# Altium schematic symbol library Analog_DAC.SchLib: 136 symbols (part 2 of 2)
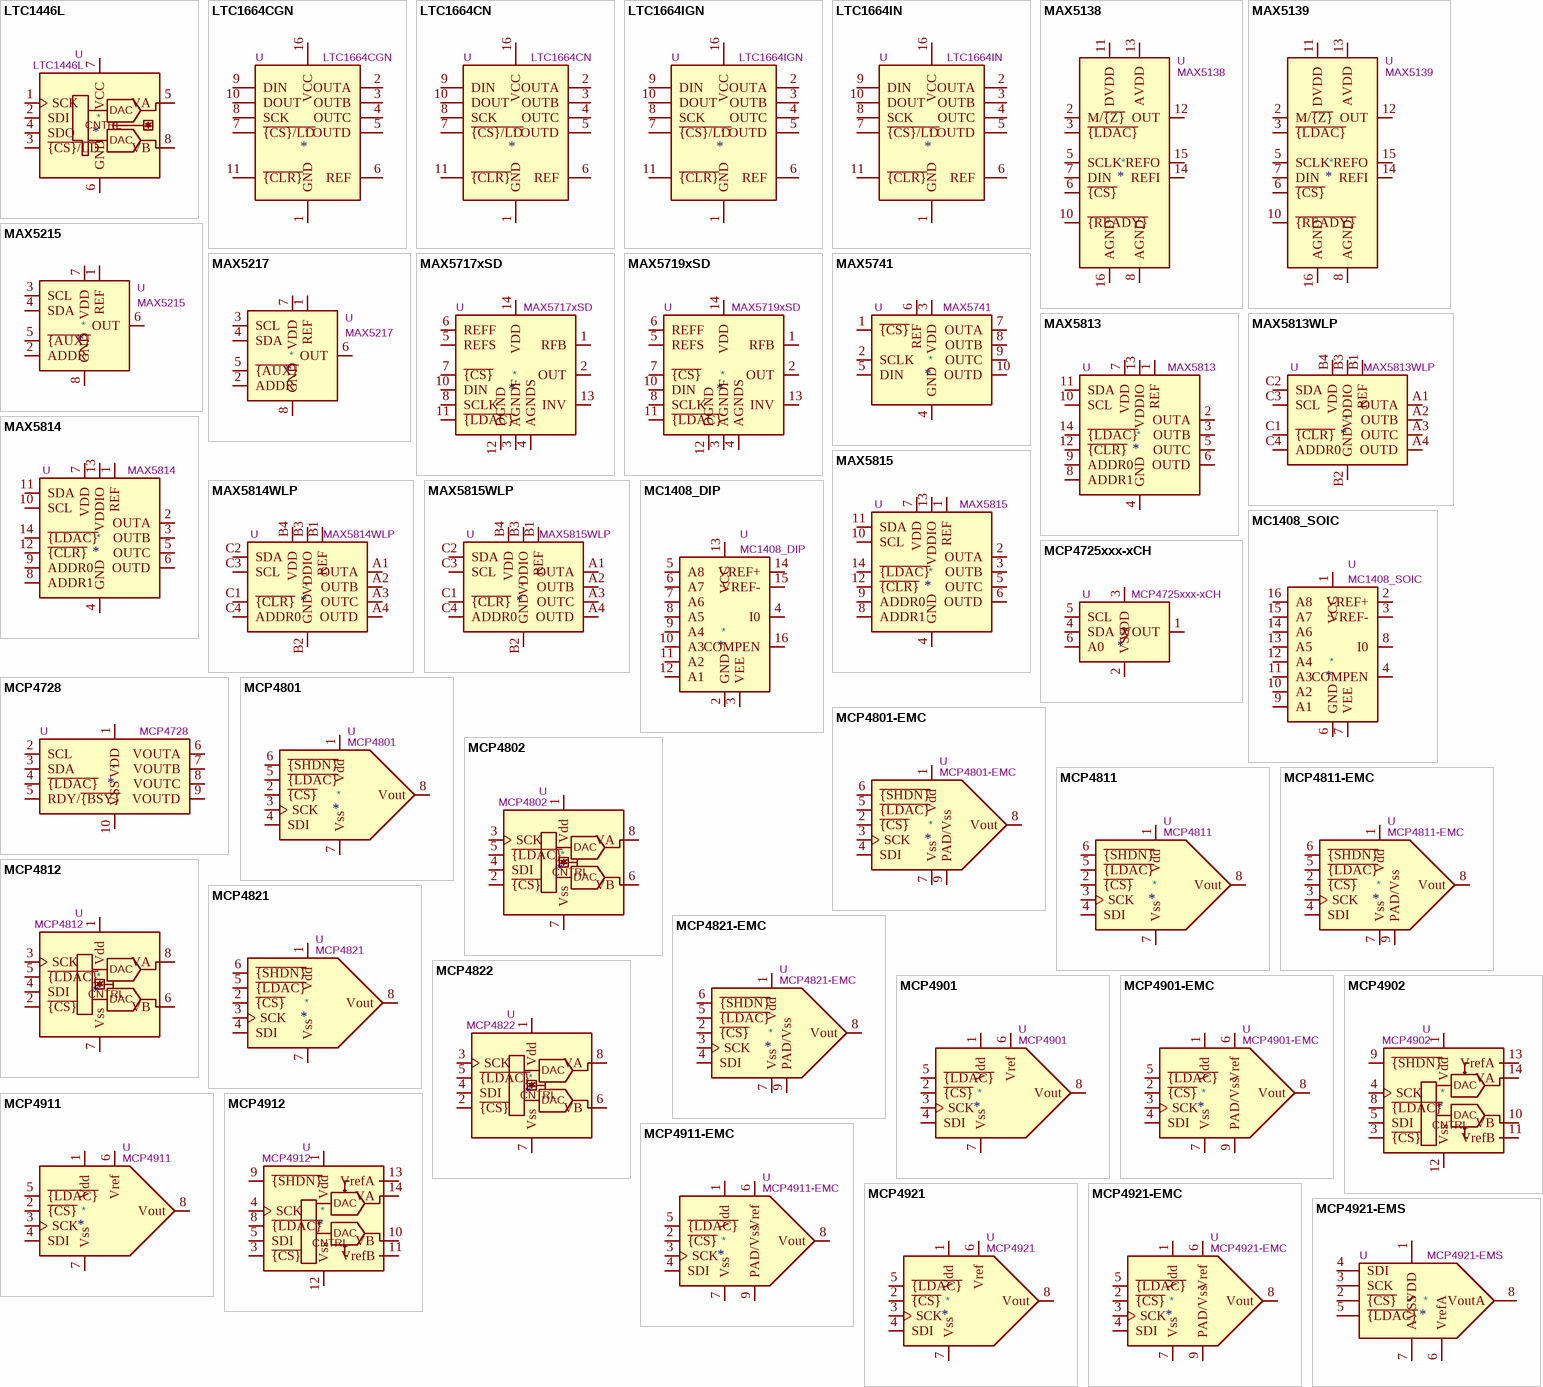
[diagram p5: symbols LTC1446L to MCP4921-EMS]

## MC1408_SOIC
designator *  value MC1408_SOIC  Reference: U
ki_keywords: 8 bit multiplying DAC; ki_description: 8-bit multiplying DAC; ki_fp_filters: SOIC*3.9x9.9mm*P1.27mm*; Footprint: Package_SO:SOIC-16_3.9x9.9mm_P1.27mm; Datasheet: http://www.pinballpcb.com/datasheets/OnMC1408-dac.pdf
pins: 1 VCC, 2 VREF+, 3 VREF-, 4 COMPEN, 5 NC hidden, 6 GND, 7 VEE, 8 I0, 9 A1, 10 A2, 11 A3, 12 A4, 13 A5, 14 A6, 15 A7, 16 A8

## MCP4725xxx-xCH
designator *  value MCP4725xxx-xCH  Reference: U
ki_keywords: dac twi; ki_description: 12-bit Digital-to-Analog Converter, integrated EEPROM, I2C interface, SOT-23-6; ki_fp_filters: SOT?23*; Footprint: Package_TO_SOT_SMD:SOT-23-6; Datasheet: http://ww1.microchip.com/downloads/en/DeviceDoc/22039d.pdf
pins: 1 VOUT, 2 VSS, 3 VDD, 4 SDA, 5 SCL, 6 A0

## MCP4728
designator *  value MCP4728  Reference: U
ki_keywords: dac i2c; ki_description: 12-bit digital to analog converter, quad output, 2.048V internal reference, integrated EEPROM, I2C interface; ki_fp_filters: *SOP*3x3mm*P0.5mm*; Footprint: Package_SO:MSOP-10_3x3mm_P0.5mm; Datasheet: http://ww1.microchip.com/downloads/en/DeviceDoc/22187E.pdf
pins: 1 VDD, 2 SCL, 3 SDA, 4 ~{{LDAC}}, 5 RDY/~{{BSY}}, 6 VOUTA, 7 VOUTB, 8 VOUTC, 9 VOUTD, 10 VSS

## MCP4801
designator *  value MCP4801  Reference: U
ki_keywords: 8-Bit DAC SPI Reference 1ch; ki_description: 8-Bit D/A Converters with SPI Interface, internal Reference (2.048V); ki_fp_filters: DIP*W7.62mm* MSOP*3x3mm*P0.65mm* SOIC*3.9x4.9mm*P1.27mm*; Datasheet: http://ww1.microchip.com/downloads/en/DeviceDoc/22244B.pdf
pins: 1 Vdd, 2 ~{{CS}}, 3 SCK, 4 SDI, 5 ~{{LDAC}}, 6 ~{{SHDN}}, 7 Vss, 8 Vout

## MCP4801-EMC
designator *  value MCP4801-EMC  Reference: U
ki_keywords: 8-Bit DAC SPI Reference 1ch; ki_description: 8-Bit D/A Converters with SPI Interface, internal Reference (2.048V); ki_fp_filters: DFN*1EP*3x2mm*P0.5mm*; Footprint: Package_DFN_QFN:DFN-8-1EP_3x2mm_P0.5mm_EP1.75x1.45mm; Datasheet: http://ww1.microchip.com/downloads/en/DeviceDoc/22244B.pdf
pins: 1 Vdd, 2 ~{{CS}}, 3 SCK, 4 SDI, 5 ~{{LDAC}}, 6 ~{{SHDN}}, 7 Vss, 8 Vout, 9 PAD/Vss

## MCP4802
designator *  value MCP4802  Reference: U
ki_keywords: 8-Bit DAC SPI Reference 2ch; ki_description: 2-Channel 8-Bit D/A Converters with SPI Interface and Internal Reference (2.048V); ki_fp_filters: DIP*W7.62mm* SOIC*3.9x4.9mm*P1.27mm* MSOP*3x3mm*P0.65mm*; Datasheet: http://ww1.microchip.com/downloads/en/DeviceDoc/20002249B.pdf
pins: 1 Vdd, 2 ~{{CS}}, 3 SCK, 4 SDI, 5 ~{{LDAC}}, 6 VB, 7 Vss, 8 VA
text: DAC; CNTRL

## MCP4811
designator *  value MCP4811  Reference: U
ki_keywords: 10-Bit DAC SPI Reference 1ch; ki_description: 10-Bit D/A Converters with SPI Interface, internal Reference (2.048V); ki_fp_filters: DIP*W7.62mm* MSOP*3x3mm*P0.65mm* SOIC*3.9x4.9mm*P1.27mm*; Datasheet: http://ww1.microchip.com/downloads/en/DeviceDoc/22244B.pdf
pins: 1 Vdd, 2 ~{{CS}}, 3 SCK, 4 SDI, 5 ~{{LDAC}}, 6 ~{{SHDN}}, 7 Vss, 8 Vout

## MCP4811-EMC
designator *  value MCP4811-EMC  Reference: U
ki_keywords: 10-Bit DAC SPI Reference 1ch; ki_description: 10-Bit D/A Converters with SPI Interface, internal Reference (2.048V); ki_fp_filters: DFN*1EP*3x2mm*P0.5mm*; Footprint: Package_DFN_QFN:DFN-8-1EP_3x2mm_P0.5mm_EP1.75x1.45mm; Datasheet: http://ww1.microchip.com/downloads/en/DeviceDoc/22244B.pdf
pins: 1 Vdd, 2 ~{{CS}}, 3 SCK, 4 SDI, 5 ~{{LDAC}}, 6 ~{{SHDN}}, 7 Vss, 8 Vout, 9 PAD/Vss

## MCP4812
designator *  value MCP4812  Reference: U
ki_keywords: 10-Bit DAC SPI Reference 2ch; ki_description: 2-Channel 10-Bit D/A Converters with SPI Interface and Internal Reference (2.048V); ki_fp_filters: DIP*W7.62mm* SOIC*3.9x4.9mm*P1.27mm* MSOP*3x3mm*P0.65mm*; Datasheet: http://ww1.microchip.com/downloads/en/DeviceDoc/20002249B.pdf
pins: 1 Vdd, 2 ~{{CS}}, 3 SCK, 4 SDI, 5 ~{{LDAC}}, 6 VB, 7 Vss, 8 VA
text: DAC; CNTRL

## MCP4821
designator *  value MCP4821  Reference: U
ki_keywords: 12-Bit DAC SPI Reference 1ch; ki_description: 12-Bit D/A Converters with SPI Interface, internal Reference (2.048V); ki_fp_filters: DIP*W7.62mm* MSOP*3x3mm*P0.65mm* SOIC*3.9x4.9mm*P1.27mm*; Datasheet: http://ww1.microchip.com/downloads/en/DeviceDoc/22244B.pdf
pins: 1 Vdd, 2 ~{{CS}}, 3 SCK, 4 SDI, 5 ~{{LDAC}}, 6 ~{{SHDN}}, 7 Vss, 8 Vout

## MCP4821-EMC
designator *  value MCP4821-EMC  Reference: U
ki_keywords: 12-Bit DAC SPI Reference 1ch; ki_description: 12-Bit D/A Converters with SPI Interface, internal Reference (2.048V); ki_fp_filters: DFN*1EP*3x2mm*P0.5mm*; Footprint: Package_DFN_QFN:DFN-8-1EP_3x2mm_P0.5mm_EP1.75x1.45mm; Datasheet: http://ww1.microchip.com/downloads/en/DeviceDoc/22244B.pdf
pins: 1 Vdd, 2 ~{{CS}}, 3 SCK, 4 SDI, 5 ~{{LDAC}}, 6 ~{{SHDN}}, 7 Vss, 8 Vout, 9 PAD/Vss

## MCP4822
designator *  value MCP4822  Reference: U
ki_keywords: 12-Bit DAC SPI Reference 2ch; ki_description: 2-Channel 12-Bit D/A Converters with SPI Interface and Internal Reference (2.048V); ki_fp_filters: DIP*W7.62mm* SOIC*3.9x4.9mm*P1.27mm* MSOP*3x3mm*P0.65mm*; Datasheet: http://ww1.microchip.com/downloads/en/DeviceDoc/20002249B.pdf
pins: 1 Vdd, 2 ~{{CS}}, 3 SCK, 4 SDI, 5 ~{{LDAC}}, 6 VB, 7 Vss, 8 VA
text: DAC; CNTRL

## MCP4901
designator *  value MCP4901  Reference: U
ki_keywords: 8-Bit DAC SPI  1ch; ki_description: 8-Bit D/A Converters with SPI Interface; ki_fp_filters: DIP*W7.62mm* MSOP*3x3mm*P0.65mm* SOIC*3.9x4.9mm*P1.27mm*; Datasheet: http://ww1.microchip.com/downloads/en/DeviceDoc/22248a.pdf
pins: 1 Vdd, 2 ~{{CS}}, 3 SCK, 4 SDI, 5 ~{{LDAC}}, 6 Vref, 7 Vss, 8 Vout

## MCP4901-EMC
designator *  value MCP4901-EMC  Reference: U
ki_keywords: 8-Bit DAC SPI  1ch; ki_description: 8-Bit D/A Converters with SPI Interface; ki_fp_filters: DFN*1EP*3x2mm*P0.5mm*; Footprint: Package_DFN_QFN:DFN-8-1EP_3x2mm_P0.5mm_EP1.75x1.45mm; Datasheet: http://ww1.microchip.com/downloads/en/DeviceDoc/22248a.pdf
pins: 1 Vdd, 2 ~{{CS}}, 3 SCK, 4 SDI, 5 ~{{LDAC}}, 6 Vref, 7 Vss, 8 Vout, 9 PAD/Vss

## MCP4902
designator *  value MCP4902  Reference: U
ki_keywords: 8-Bit DAC SPI  2ch; ki_description: 2-Channel 8-Bit D/A Converters with SPI Interface; ki_fp_filters: DIP*W7.62mm* SOIC*3.9x8.7mm*P1.27mm* TSSOP*4.4x5mm*P0.65mm*; Datasheet: http://ww1.microchip.com/downloads/en/DeviceDoc/22250A.pdf
pins: 1 Vdd, 2 NC hidden, 3 ~{{CS}}, 4 SCK, 5 SDI, 6 NC hidden, 7 NC hidden, 8 ~{{LDAC}}, 9 ~{{SHDN}}, 10 VB, 11 VrefB, 12 Vss, 13 VrefA, 14 VA
text: DAC; CNTRL

## MCP4911
designator *  value MCP4911  Reference: U
ki_keywords: 10-Bit DAC SPI 1ch; ki_description: 10-Bit D/A Converters with SPI Interface; ki_fp_filters: DIP*W7.62mm* MSOP*3x3mm*P0.65mm* SOIC*3.9x4.9mm*P1.27mm*; Datasheet: http://ww1.microchip.com/downloads/en/DeviceDoc/22248a.pdf
pins: 1 Vdd, 2 ~{{CS}}, 3 SCK, 4 SDI, 5 ~{{LDAC}}, 6 Vref, 7 Vss, 8 Vout

## MCP4911-EMC
designator *  value MCP4911-EMC  Reference: U
ki_keywords: 10-Bit DAC SPI  1ch; ki_description: 10-Bit D/A Converters with SPI Interface; ki_fp_filters: DFN*1EP*3x2mm*P0.5mm*; Footprint: Package_DFN_QFN:DFN-8-1EP_3x2mm_P0.5mm_EP1.75x1.45mm; Datasheet: http://ww1.microchip.com/downloads/en/DeviceDoc/22248a.pdf
pins: 1 Vdd, 2 ~{{CS}}, 3 SCK, 4 SDI, 5 ~{{LDAC}}, 6 Vref, 7 Vss, 8 Vout, 9 PAD/Vss

## MCP4912
designator *  value MCP4912  Reference: U
ki_keywords: 10-Bit DAC SPI 2ch; ki_description: 2-Channel 10-Bit D/A Converters with SPI Interface; ki_fp_filters: DIP*W7.62mm* SOIC*3.9x8.7mm*P1.27mm* TSSOP*4.4x5mm*P0.65mm*; Datasheet: http://ww1.microchip.com/downloads/en/DeviceDoc/22250A.pdf
pins: 1 Vdd, 2 NC hidden, 3 ~{{CS}}, 4 SCK, 5 SDI, 6 NC hidden, 7 NC hidden, 8 ~{{LDAC}}, 9 ~{{SHDN}}, 10 VB, 11 VrefB, 12 Vss, 13 VrefA, 14 VA
text: DAC; CNTRL

## MCP4921
designator *  value MCP4921  Reference: U
ki_keywords: 12-Bit DAC SPI 1ch; ki_description: 12-Bit D/A Converters with SPI Interface; ki_fp_filters: DIP*W7.62mm* MSOP*3x3mm*P0.65mm* SOIC*3.9x4.9mm*P1.27mm*; Datasheet: http://ww1.microchip.com/downloads/en/DeviceDoc/22248a.pdf
pins: 1 Vdd, 2 ~{{CS}}, 3 SCK, 4 SDI, 5 ~{{LDAC}}, 6 Vref, 7 Vss, 8 Vout

## MCP4921-EMC
designator *  value MCP4921-EMC  Reference: U
ki_keywords: 12-Bit DAC SPI  1ch; ki_description: 12-Bit D/A Converters with SPI Interface; ki_fp_filters: DFN*1EP*3x2mm*P0.5mm*; Footprint: Package_DFN_QFN:DFN-8-1EP_3x2mm_P0.5mm_EP1.75x1.45mm; Datasheet: http://ww1.microchip.com/downloads/en/DeviceDoc/22248a.pdf
pins: 1 Vdd, 2 ~{{CS}}, 3 SCK, 4 SDI, 5 ~{{LDAC}}, 6 Vref, 7 Vss, 8 Vout, 9 PAD/Vss

## MCP4921-EMS
designator *  value MCP4921-EMS  Reference: U
ki_keywords: Single DAC 1ch 12bit SPI; ki_description: Single 12-bit Digital to Analog Converter, SPI Interface, MSOP-8; ki_fp_filters: MSOP* SOIC* DIP* PDIP*; Datasheet: http://ww1.microchip.com/downloads/en/devicedoc/21897a.pdf
pins: 1 VDD, 2 ~{{CS}}, 3 SCK, 4 SDI, 5 ~{{LDAC}}, 6 VrefA, 7 AVSS, 8 VoutA

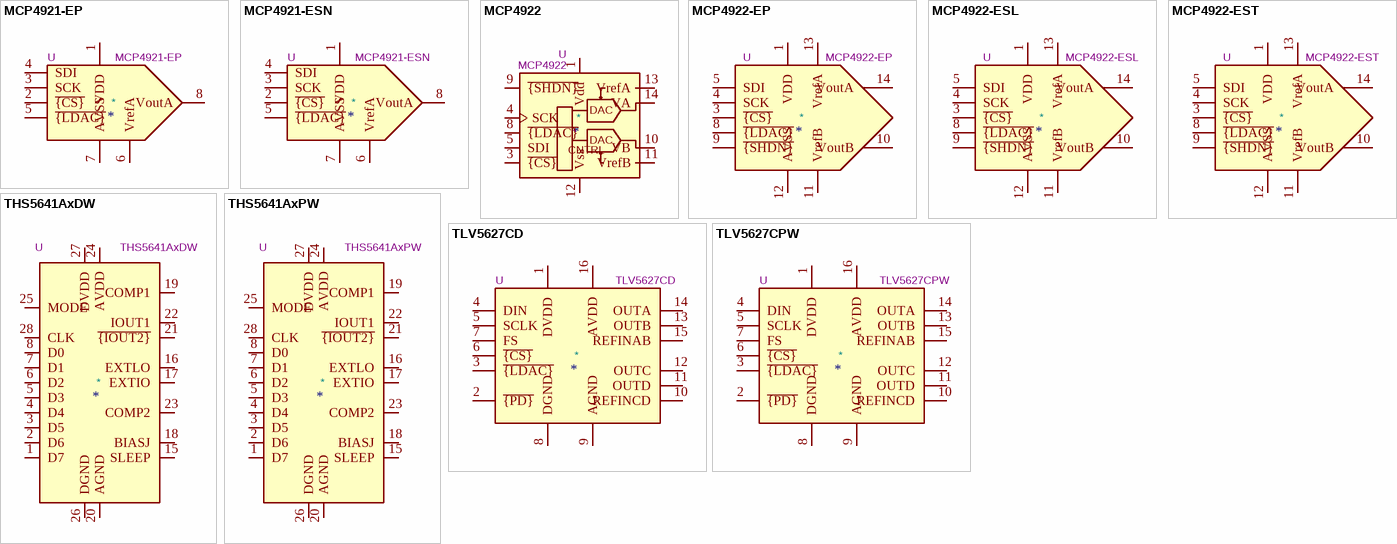
[diagram p4: symbols MCP4921-EP to TLV5627CPW]

## MCP4921-EP
designator *  value MCP4921-EP  Reference: U
ki_keywords: Single DAC 1ch 12bit SPI; ki_description: Single 12-bit Digital to Analog Converter, SPI Interface, PDIP-8; ki_fp_filters: MSOP* SOIC* DIP* PDIP*; Datasheet: http://ww1.microchip.com/downloads/en/devicedoc/21897a.pdf
pins: 1 VDD, 2 ~{{CS}}, 3 SCK, 4 SDI, 5 ~{{LDAC}}, 6 VrefA, 7 AVSS, 8 VoutA

## MCP4921-ESN
designator *  value MCP4921-ESN  Reference: U
ki_keywords: Single DAC 1ch 12bit SPI; ki_description: Single 12-bit Digital to Analog Converter, SPI Interface, SOIC-8; ki_fp_filters: MSOP* SOIC* DIP* PDIP*; Datasheet: http://ww1.microchip.com/downloads/en/devicedoc/21897a.pdf
pins: 1 VDD, 2 ~{{CS}}, 3 SCK, 4 SDI, 5 ~{{LDAC}}, 6 VrefA, 7 AVSS, 8 VoutA

## MCP4922
designator *  value MCP4922  Reference: U
ki_keywords: 12-Bit DAC SPI 2CH; ki_description: 2-Channel 12-Bit D/A Converters with SPI Interface; ki_fp_filters: DIP*W7.62mm* SOIC*3.9x8.7mm*P1.27mm* TSSOP*4.4x5mm*P0.65mm*; Datasheet: http://ww1.microchip.com/downloads/en/DeviceDoc/22250A.pdf
pins: 1 Vdd, 2 NC hidden, 3 ~{{CS}}, 4 SCK, 5 SDI, 6 NC hidden, 7 NC hidden, 8 ~{{LDAC}}, 9 ~{{SHDN}}, 10 VB, 11 VrefB, 12 Vss, 13 VrefA, 14 VA
text: DAC; CNTRL

## MCP4922-EP
designator *  value MCP4922-EP  Reference: U
ki_keywords: Dual DAC 1ch 12bit SPI; ki_description: Dual 12-bit Digital to Analog Converter, SPI Interface, PDIP-14; ki_fp_filters: DIP* PDIP* SO* SOIC* TSSOP*; Datasheet: http://ww1.microchip.com/downloads/en/devicedoc/21897a.pdf
pins: 1 VDD, 2 NC hidden, 3 ~{{CS}}, 4 SCK, 5 SDI, 6 NC hidden, 7 NC hidden, 8 ~{{LDAC}}, 9 ~{{SHDN}}, 10 VoutB, 11 VrefB, 12 AVSS, 13 VrefA, 14 VoutA

## MCP4922-ESL
designator *  value MCP4922-ESL  Reference: U
ki_keywords: Dual DAC 1ch 12bit SPI; ki_description: Dual 12-bit Digital to Analog Converter, SPI Interface, SOIC-14; ki_fp_filters: DIP* PDIP* SO* SOIC* TSSOP*; Datasheet: http://ww1.microchip.com/downloads/en/devicedoc/21897a.pdf
pins: 1 VDD, 2 NC hidden, 3 ~{{CS}}, 4 SCK, 5 SDI, 6 NC hidden, 7 NC hidden, 8 ~{{LDAC}}, 9 ~{{SHDN}}, 10 VoutB, 11 VrefB, 12 AVSS, 13 VrefA, 14 VoutA

## MCP4922-EST
designator *  value MCP4922-EST  Reference: U
ki_keywords: Dual DAC 1ch 12bit SPI; ki_description: Dual 12-bit Digital to Analog Converter, SPI Interface, TSSOP-14; ki_fp_filters: DIP* PDIP* SO* SOIC* TSSOP*; Datasheet: http://ww1.microchip.com/downloads/en/devicedoc/21897a.pdf
pins: 1 VDD, 2 NC hidden, 3 ~{{CS}}, 4 SCK, 5 SDI, 6 NC hidden, 7 NC hidden, 8 ~{{LDAC}}, 9 ~{{SHDN}}, 10 VoutB, 11 VrefB, 12 AVSS, 13 VrefA, 14 VoutA

## THS5641AxDW
designator *  value THS5641AxDW  Reference: U
ki_keywords: DAC IDAC; ki_description: 8-Bit, 100 MSPS, CommsDAC, Parallel Current DAC, SOIC-28; ki_fp_filters: SOIC*7.5x17.9mm*P1.27mm*; Footprint: Package_SO:SOIC-28W_7.5x17.9mm_P1.27mm; Datasheet: http://www.ti.com/lit/ds/symlink/ths5641a.pdf
pins: 1 D7, 2 D6, 3 D5, 4 D4, 5 D3, 6 D2, 7 D1, 8 D0, 9 NC hidden, 10 NC hidden, 11 NC hidden, 12 NC hidden, 13 NC hidden, 14 NC hidden, 15 SLEEP, 16 EXTLO, 17 EXTIO, 18 BIASJ, 19 COMP1, 20 AGND, 21 ~{{IOUT2}}, 22 IOUT1, 23 COMP2, 24 AVDD, 25 MODE, 26 DGND, 27 DVDD, 28 CLK

## THS5641AxPW
designator *  value THS5641AxPW  Reference: U
ki_keywords: DAC IDAC; ki_description: 8-Bit, 100 MSPS, CommsDAC, Parallel Current DAC, TSSOP-28; ki_fp_filters: TSSOP*4.4x9.7mm*P0.65mm*; Footprint: Package_SO:TSSOP-28_4.4x9.7mm_P0.65mm; Datasheet: http://www.ti.com/lit/ds/symlink/ths5641a.pdf
pins: 1 D7, 2 D6, 3 D5, 4 D4, 5 D3, 6 D2, 7 D1, 8 D0, 9 NC hidden, 10 NC hidden, 11 NC hidden, 12 NC hidden, 13 NC hidden, 14 NC hidden, 15 SLEEP, 16 EXTLO, 17 EXTIO, 18 BIASJ, 19 COMP1, 20 AGND, 21 ~{{IOUT2}}, 22 IOUT1, 23 COMP2, 24 AVDD, 25 MODE, 26 DGND, 27 DVDD, 28 CLK

## TLV5627CD
designator *  value TLV5627CD  Reference: U
ki_keywords: DAC 4CH 8bit; ki_description: 4-Channel DAC, 8bit, w/ Power Down, SOIC-16; Datasheet: http://www.ti.com/lit/ds/symlink/tlv5627.pdf
pins: 1 DVDD, 2 ~{{PD}}, 3 ~{{LDAC}}, 4 DIN, 5 SCLK, 6 ~{{CS}}, 7 FS, 8 DGND, 9 AGND, 10 REFINCD, 11 OUTD, 12 OUTC, 13 OUTB, 14 OUTA, 15 REFINAB, 16 AVDD

## TLV5627CPW
designator *  value TLV5627CPW  Reference: U
ki_keywords: DAC 4CH 8bit; ki_description: 4-Channel DAC, 8bit, w/ Power Down, TSSOP-16; Datasheet: http://www.ti.com/lit/ds/symlink/tlv5627.pdf
pins: 1 DVDD, 2 ~{{PD}}, 3 ~{{LDAC}}, 4 DIN, 5 SCLK, 6 ~{{CS}}, 7 FS, 8 DGND, 9 AGND, 10 REFINCD, 11 OUTD, 12 OUTC, 13 OUTB, 14 OUTA, 15 REFINAB, 16 AVDD